# Altium footprint library PCB - Switches_SMT - 147873-1.PcbLib: 1 footprints
Each footprint in its own frame and in the unit in brackets; x right, y up, seen from the top. Pads: shape width x height; smd on the part's side, far side on the other; paste and mask are expansions set on the pad; w line width, h text height; cw(c..) or ccw(c..) is an arc to the next point about the centre after c.
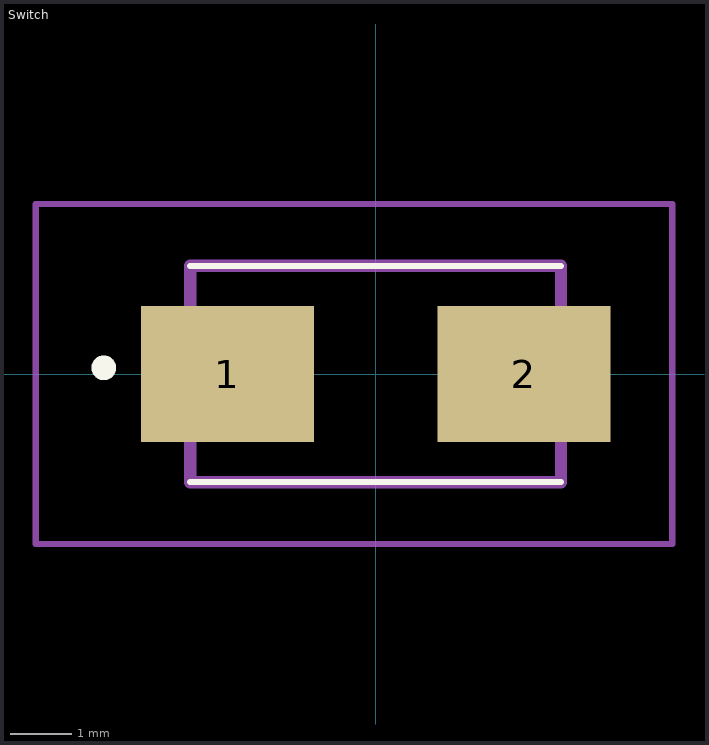
[diagram p0: the footprint, top view; thin cyan lines are the x and y axes]

## Switch [mm]
pads (2):
  rect 2.8x2.2 smd: 1(-2.4,0) 2(2.4,0)
Top Overlay:
  lines w0.1: -3,-1.75 3,-1.75 ; -3,1.75 3,1.75
  lines w0.2: -4.4,0 cw(c-4.4,0.1) -4.4,0.2 cw(c-4.4,0.1) -4.4,0
Mechanical 13:
  lines w0.2: -3,-1.75 -3,1.75 3,1.75 3,-1.75 -3,-1.75
Mechanical 15:
  lines w0.1: -5.5,-2.75 -5.5,2.75 4.8,2.75 4.8,-2.75 -5.5,-2.75
3D body "147873-1.stp": height 1.5, standoff -3.7, extent -3.75,-1.75 3.05,1.75